# Altium footprint library 54202-G30-03-ICSP.PcbLib: 1 footprints
Each footprint in its own frame and in the unit in brackets; x right, y up, seen from the top. Pads: shape width x height; smd on the part's side, far side on the other; paste and mask are expansions set on the pad; w line width, h text height; cw(c..) or ccw(c..) is an arc to the next point about the centre after c.
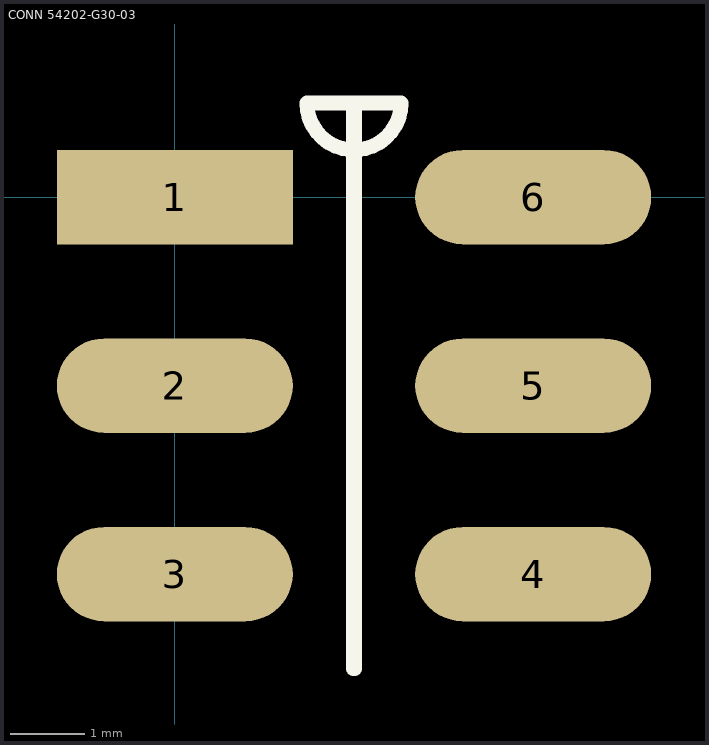
[diagram p0: the footprint, top view; thin cyan lines are the x and y axes]

## CONN 54202-G30-03 [mm] "ICSP"
pads (6):
  rect 3.18x1.27 smd: 1(0,0)
  oval 3.18x1.27 smd: 2(0,-2.54) 3(0,-5.08) 4(4.83,-5.08) 5(4.83,-2.54) 6(4.83,0)
Top Overlay:
  lines w0.2: 1.78,1.27 ccw(c2.415,1.27) 3.05,1.27 2.405,1.27 2.405,-6.35 2.425,-6.35 2.425,1.27 1.78,1.27